# Altium schematic symbol library Buck.SCHLIB: 41 symbols
Pins are listed as number, name and electrical type; pins without a type are passive.

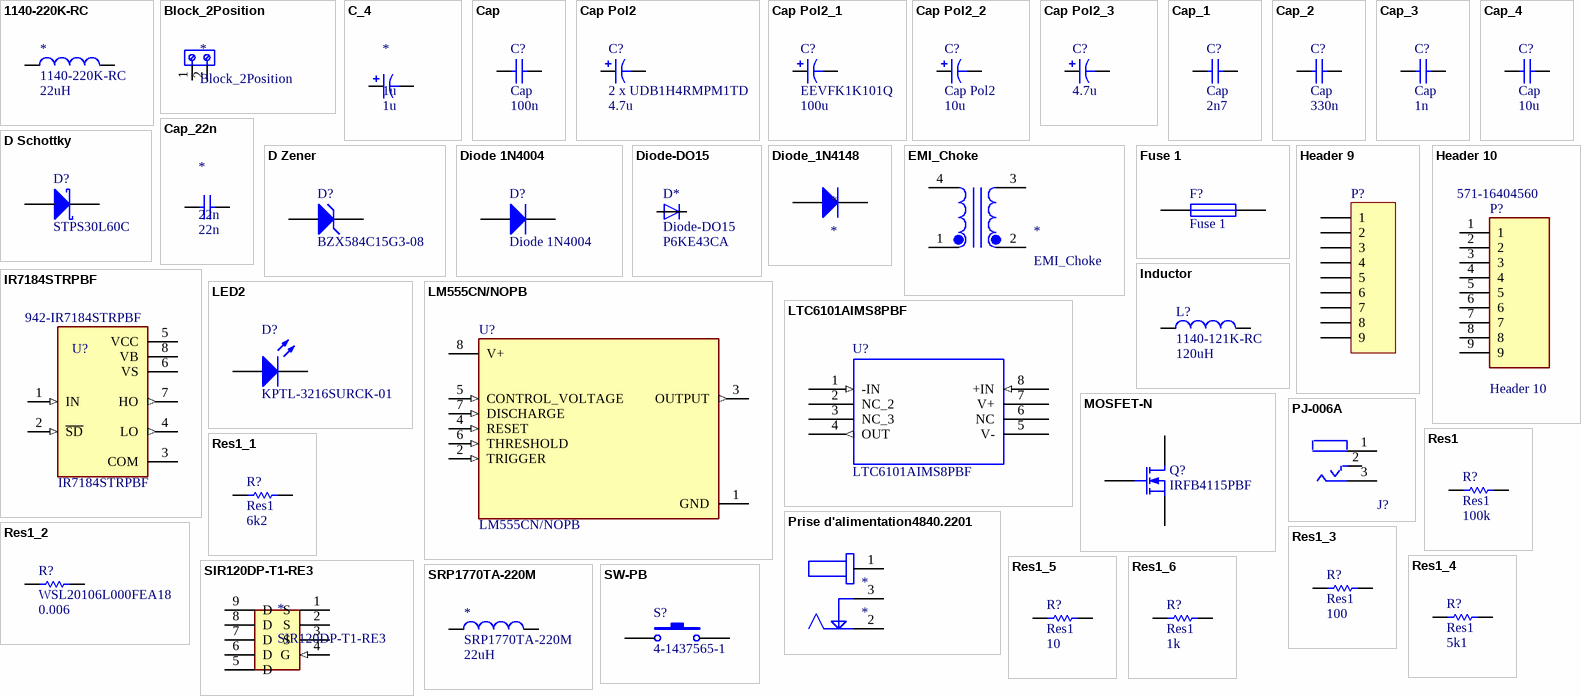
[diagram p0: symbols 1140-220K-RC to SW-PB]

## 1140-220K-RC
designator *  value 22uH
footprint L_120
pins: 1, 2

## Block_2Position
designator *
footprint Block_2Position
pins: 1, 2

## C_4
designator *, comment 1u
Parameter 2: *; Valeur: 1u
footprint C0805
pins: 1, 2

## Cap
designator C?  value 100n
Capacitor; Published: 8-Jun-2000; LatestRevisionDate: 17-Jul-2002; LatestRevisionNote: Re-released for DXP Platform.; PackageReference: RAD-0.3; Publisher: Altium Limited; PackageDescription: Radial Cap, Thru-Hole; 2 Leads; 0.3 in Pin Spacing; Supplier 1: Mouser
simulation model CAP (Capacitor)
signal-integrity model Cap
footprint C0805
pins: 1, 2

## Cap Pol2
designator C?, comment 2 x UDB1H4RMPM1TD  value 4.7u
Published: 8-Jun-2000; LatestRevisionDate: 17-Jul-2002; LatestRevisionNote: Re-released for DXP Platform.; PackageReference: POLAR0.8; Publisher: Altium Limited; PackageDescription: Polarized Capacitor; 2 Leads; Supplier 1: Digi-Key
simulation model CAP (Capacitor)
signal-integrity model Cap Pol
footprint C1-C2
pins: 1, 2
1 alternate drawing of the same symbol

## Cap Pol2_1
designator C?, comment EEVFK1K101Q  value 100u
Polarized Capacitor (Axial); Published: 8-Jun-2000; LatestRevisionDate: 17-Jul-2002; LatestRevisionNote: Re-released for DXP Platform.; PackageReference: POLAR0.8; Publisher: Altium Limited; PackageDescription: Polarized Capacitor; 2 Leads; Supplier 1: Mouser
simulation model CAP (Capacitor)
signal-integrity model Cap Pol
footprint C_Pol_EEV-FK1K101Q
pins: 1, 2
1 alternate drawing of the same symbol

## Cap Pol2_2
designator C?, comment Cap Pol2  value 10u
Polarized Capacitor (Axial); Published: 8-Jun-2000; LatestRevisionDate: 17-Jul-2002; LatestRevisionNote: Re-released for DXP Platform.; PackageReference: POLAR0.8; Publisher: Altium Limited; PackageDescription: Polarized Capacitor; 2 Leads; Supplier 1: Mouser
simulation model CAP (Capacitor)
signal-integrity model Cap Pol
footprint C_10u
pins: 1, 2
1 alternate drawing of the same symbol

## Cap Pol2_3
designator C?, comment value 4.7u  (hidden comment: UDB1H4RMPM1TD)
Published: 8-Jun-2000; LatestRevisionDate: 17-Jul-2002; LatestRevisionNote: Re-released for DXP Platform.; PackageReference: POLAR0.8; Publisher: Altium Limited; PackageDescription: Polarized Capacitor; 2 Leads; Supplier 1: Digi-Key
simulation model CAP (Capacitor)
signal-integrity model Cap Pol
footprint C1-C2
pins: NEG 2, POS 1
1 alternate drawing of the same symbol

## Cap_1
designator C?, comment Cap  value 2n7
Capacitor; Published: 8-Jun-2000; LatestRevisionDate: 17-Jul-2002; LatestRevisionNote: Re-released for DXP Platform.; PackageReference: RAD-0.3; Publisher: Altium Limited; PackageDescription: Radial Cap, Thru-Hole; 2 Leads; 0.3 in Pin Spacing; Supplier 1: Mouser
simulation model CAP (Capacitor)
signal-integrity model Cap
footprint C0805
pins: 1, 2

## Cap_2
designator C?, comment Cap  value 330n
Capacitor; Published: 8-Jun-2000; LatestRevisionDate: 17-Jul-2002; LatestRevisionNote: Re-released for DXP Platform.; PackageReference: RAD-0.3; Publisher: Altium Limited; PackageDescription: Radial Cap, Thru-Hole; 2 Leads; 0.3 in Pin Spacing; Supplier 1: Mouser
simulation model CAP (Capacitor)
signal-integrity model Cap
footprint C0805
pins: 1, 2

## Cap_3
designator C?, comment Cap  value 1n
Capacitor; Published: 8-Jun-2000; LatestRevisionDate: 17-Jul-2002; LatestRevisionNote: Re-released for DXP Platform.; PackageReference: RAD-0.3; Publisher: Altium Limited; PackageDescription: Radial Cap, Thru-Hole; 2 Leads; 0.3 in Pin Spacing; Supplier 1: Mouser
simulation model CAP (Capacitor)
signal-integrity model Cap
footprint C0805
pins: 1, 2

## Cap_4
designator C?, comment Cap  value 10u
Capacitor; Published: 8-Jun-2000; LatestRevisionDate: 17-Jul-2002; LatestRevisionNote: Re-released for DXP Platform.; PackageReference: RAD-0.3; Publisher: Altium Limited; PackageDescription: Radial Cap, Thru-Hole; 2 Leads; 0.3 in Pin Spacing; Supplier 1: Mouser
simulation model CAP (Capacitor)
signal-integrity model Cap
footprint C_Pol
pins: 1, 2

## Cap_22n
designator *, comment 22n
Parameter 2: *; Value: 22n
footprint C0805
pins: 1, 2

## D Schottky
designator D?, comment STPS30L60C
Schottky Diode; Published: 8-Jun-2000; LatestRevisionDate: 17-Jul-2002; LatestRevisionNote: Re-released for DXP Platform.; PackageReference: SMB; Publisher: Altium Limited; PackageDescription: DO-214-AA/SMB; 2 C-Bend Leads; Body 5.3 x 3.6 mm, inc. leads (LxW); Code_JEDEC: DO-214-AA
simulation model SKYDIODE (Diode)
signal-integrity model D Schottky
footprint Diode_Scho
pins: 1 A, 3, 4 K

## D Zener
designator D?, comment BZX584C15G3-08
Zener Diode 15V; Published: 8-Jun-2000; LatestRevisionDate: 17-Jul-2002; LatestRevisionNote: Re-released for DXP Platform.; PackageReference: DIODE-0.7; Publisher: Altium Limited; PackageDescription: Diode, Thru-Hole; 2 Leads; 0.7 in Pin Spacing; Supplier 1: Mouser
simulation model ZENER (Diode)
signal-integrity model D Zener
footprint SOT-523
pins: 1, 2

## Diode 1N4004
designator D?
1 Amp General Purpose Rectifier; Published: 8-Jun-2000; LatestRevisionDate: 17-Jul-2002; LatestRevisionNote: Re-released for DXP Platform.; DatasheetVersion: 1998; PackageVersion: Aug-1999; PackageReference: DO-41; Publisher: Altium Limited; PackageDescription: Diode, Axial; Body 5.2 x 2.7 mm (LxDia. max), Lead Dia. 0.86 mm (max); Code_JEDEC: DO-204-AL; ComponentLink1Description: Manufacturer Link; ComponentLink1URL: http://www.fairchildsemi.com/; ComponentLink2Description: Datasheet; ComponentLink2URL: http://www.fairchildsemi.com/ds/1N%2F1N4001.pdf; Supplier 1: Digi-Key
simulation model 1N4004 (DIODE)
signal-integrity model 1N4004
footprint diode_1N4004
pins: A, C K

## Diode-DO15
designator D*
P6KE43CA; Tension: 43V; Ref: P6KE43CA
footprint DO15
pins: A, C

## Diode_1N4148
designator *
footprint diode_1N4004
pins: A, C

## EMI_Choke
designator *
1mH 20A
footprint EMI_Choke
pins: 1, 2, 3, 4

## Fuse 1
designator F?
Fuse; Published: 8-Jun-2000; LatestRevisionDate: 17-Jul-2002; LatestRevisionNote: Re-released for DXP Platform.; PackageReference: PIN-W2/E2.8; Publisher: Altium Limited; PackageDescription: Thru-Hole; 2 Leads
footprint PIN-W2/E2.8 (Thru-Hole; 2 Leads)
simulation model FUSE (Spice Subcircuit)
pins: 1, 2

## Header 9
designator P?
Header, 9-Pin; LatestRevisionDate: 17-Jul-2002; LatestRevisionNote: Re-released for DXP Platform.; Publisher: Altium Limited
footprint HDR1X9 (Connector; Header; 9 Position)
signal-integrity model Connector
pins: 1, 2, 3, 4, 5, 6, 7, 8, 9

## Header 10
designator P?  Supplier Part Number 1: 571-16404560
Header, 10-Pin; LatestRevisionDate: 17-Jul-2002; LatestRevisionNote: Re-released for DXP Platform.; Publisher: Altium Limited; Supplier 1: Mouser
signal-integrity model Connector
footprint Header10
pins: 1, 2, 3, 4, 5, 6, 7, 8, 9

## Inductor
designator L?, comment 1140-121K-RC  value 120uH
Code_IEC: 1005; Published: 8-Jun-2000; LatestRevisionDate: 29-May-2009; LatestRevisionNote: IPC-7351 Footprint Added.; PackageReference: 0402-A; Publisher: Altium Limited; PackageDescription: Chip Inductor; Code_JEITA: 0402; Supplier 1: Mouser
simulation model INDUCTOR (Inductor)
signal-integrity model Inductor
footprint L_120
pins: 1, 2

## IR7184STRPBF
designator U?  Supplier Part Number 1: 942-IR7184STRPBF
Drives IGBT/MOSFET power devices | Gate drive supplies up to 20 V per channel | Integrated deadtime protection | Shoot-through _cross-conduction_ protection | Undervoltage lockout for VCC for VBS | 3.3 V, 5 V , 15 V input logic compatible | Tolerant to negative transient voltage | Designed for use with bootstrap power supplies | Matched propagation delays | -40C to 125C operating range; MF: Infineon Technologies; Value: *; MP: IR7184STRPBF; Package: SOIC-8 Infineon; Price: None; Availability: Unavailable; SnapEDA_Link: https://www.snapeda.com/parts/IR7184STRPBF/Infineon%20Technologies/view-part/1224754/?ref=snap; Supplier 1: Mouser
footprint IR7184STRPBF
pins: 1 IN (in), 2 ~{SD} (in), 3 COM (power), 4 LO (out), 5 VCC (power), 6 VS (power), 7 HO (out), 8 VB (power)

## LED2
designator D?, comment KPTL-3216SURCK-01
Typical RED, GREEN, YELLOW, AMBER GaAs LED; Published: 8-Jun-2000; LatestRevisionDate: 17-Jul-2002; LatestRevisionNote: Re-released for DXP Platform.; PackageVersion: Feb-2002; PackageReference: 3.2X1.6X1.1; Publisher: Altium Limited; PackageDescription: SM LED; 2 Flat Leads; Supplier 1: Farnell
simulation model LED2 (Diode)
footprint LED
pins: 1 A, 2 K

## LM555CN/NOPB
designator U?
Value: *; Availability: Unavailable; Package: None; MP: LM555CN/NOPB; Price: None; Supplier 1: Mouser
footprint LM555CN/NOPB
pins: 1 GND (power), 2 TRIGGER (in), 3 OUTPUT (out), 4 RESET (in), 5 CONTROL_VOLTAGE (in), 6 THRESHOLD (in), 7 DISCHARGE (in), 8 V+ (power)

## LTC6101AIMS8PBF
designator U?
SP Amp Current Sense Amp Single 60V Automotive 8-Pin MSOP Tube; MP: LTC6101AIMS8#PBF; MF: Analog Devices; SnapEDA_Link: https://www.snapeda.com/parts/LTC6101AIMS8%23PBF/Analog%20Devices/view-part/4331140/?ref=snap; Price: None; Purchase-URL: https://pricing.snapeda.com/search/part/LTC6101AIMS8#PBF/?ref=eda; Package: MSOP-8 Analog Devices; Availability: Warning; Value: *; Check_prices: https://www.snapeda.com/parts/LTC6101AIMS8%23PBF/Analog%20Devices/view-part/4331140/?ref=eda; Supplier 1: Mouser
footprint LTC6101AIMS8#PBF
pins: 1 -IN (in), 2 NC_2, 3 NC_3, 4 OUT (out), 5 V- (power), 6 NC, 7 V+ (power), 8 +IN (in)

## MOSFET-N
designator Q?, comment IRFB4115PBF
N-Channel MOSFET; Published: 8-Jun-2000; LatestRevisionDate: 17-Jul-2002; LatestRevisionNote: Re-released for DXP Platform.; PackageVersion: 1995/1996; PackageReference: E3; Publisher: Altium Limited; PackageDescription: TO, Flat Index; 3 In-Line, Axial Leads; Body Dia. 4.6mm; Lead Dia. 0.5 mm (max); Supplier 1: Mouser
simulation model NMOS (MOSFET-N)
footprint MOSFET-N_IRFB4115PBF
pins: 1 D, 2 G, 3 S

## PJ-006A
designator J?  (value not drawn)
2.1mm DC Power Jack
footprint CUI_Inc_PJ-006A_MFG
pins: 1, 2, 3

## Prise d'alimentation4840.2201
designator *
footprint Prise d'alimentation4840.2201
pins: 1, 2, 3

## Res1
designator R?  value 100k
Resistor; Published: 8-Jun-2000; LatestRevisionDate: 17-Jul-2002; LatestRevisionNote: Re-released for DXP Platform.; PackageReference: AXIAL-0.3; Publisher: Altium Limited; PackageDescription: Axial Device, Thru-Hole; 2 Leads; 0.3 in Pin Spacing; Supplier 1: Digi-Key; Supplier 2: Mouser
simulation model RESISTOR (Resistor)
signal-integrity model Res
footprint R0805
pins: 1, 2

## Res1_1
designator R?, comment Res1  value 6k2
Resistor; Published: 8-Jun-2000; LatestRevisionDate: 17-Jul-2002; LatestRevisionNote: Re-released for DXP Platform.; PackageReference: AXIAL-0.3; Publisher: Altium Limited; PackageDescription: Axial Device, Thru-Hole; 2 Leads; 0.3 in Pin Spacing; Supplier 1: Mouser
simulation model RESISTOR (Resistor)
signal-integrity model Res
footprint R0805
pins: 1, 2

## Res1_2
designator R?, comment WSL20106L000FEA18  value 0.006
Resistor; Published: 8-Jun-2000; LatestRevisionDate: 17-Jul-2002; LatestRevisionNote: Re-released for DXP Platform.; PackageReference: AXIAL-0.3; Publisher: Altium Limited; PackageDescription: Axial Device, Thru-Hole; 2 Leads; 0.3 in Pin Spacing; Supplier 1: Mouser
simulation model RESISTOR (Resistor)
signal-integrity model Res
footprint R0.006
pins: 1, 2

## Res1_3
designator R?, comment Res1  value 100
Resistor; Published: 8-Jun-2000; LatestRevisionDate: 17-Jul-2002; LatestRevisionNote: Re-released for DXP Platform.; PackageReference: AXIAL-0.3; Publisher: Altium Limited; PackageDescription: Axial Device, Thru-Hole; 2 Leads; 0.3 in Pin Spacing; Supplier 1: Mouser
simulation model RESISTOR (Resistor)
signal-integrity model Res
footprint R0805
pins: 1, 2

## Res1_4
designator R?, comment Res1  value 5k1
Resistor; Published: 8-Jun-2000; LatestRevisionDate: 17-Jul-2002; LatestRevisionNote: Re-released for DXP Platform.; PackageReference: AXIAL-0.3; Publisher: Altium Limited; PackageDescription: Axial Device, Thru-Hole; 2 Leads; 0.3 in Pin Spacing; Supplier 1: Mouser
simulation model RESISTOR (Resistor)
signal-integrity model Res
footprint R0805
pins: 1, 2

## Res1_5
designator R?, comment Res1  value 10
Resistor; Published: 8-Jun-2000; LatestRevisionDate: 17-Jul-2002; LatestRevisionNote: Re-released for DXP Platform.; PackageReference: AXIAL-0.3; Publisher: Altium Limited; PackageDescription: Axial Device, Thru-Hole; 2 Leads; 0.3 in Pin Spacing; Supplier 1: Mouser
simulation model RESISTOR (Resistor)
signal-integrity model Res
footprint R0805
pins: 1, 2

## Res1_6
designator R?, comment Res1  value 1k
Resistor; Published: 8-Jun-2000; LatestRevisionDate: 17-Jul-2002; LatestRevisionNote: Re-released for DXP Platform.; PackageReference: AXIAL-0.3; Publisher: Altium Limited; PackageDescription: Axial Device, Thru-Hole; 2 Leads; 0.3 in Pin Spacing; Supplier 1: Mouser
simulation model RESISTOR (Resistor)
signal-integrity model Res
footprint R0805
pins: 1, 2

## SIR120DP-T1-RE3
designator *
footprint MOFET_SIR120DP-T1-RE3
pins: 1 S (power), 2 S (power), 3 S (power), 4 G (in), 5 D (power), 6 D (power), 7 D (power), 8 D (power), 9 D (power)

## SRP1770TA-220M
designator *  value 22uH
footprint SRP1770TA-220M
pins: 1, 2

## SW-PB
designator S?, comment 4-1437565-1
Switch; Published: 24-Mar-1999; LatestRevisionDate: 17-Jul-2002; LatestRevisionNote: Re-released for DXP Platform.; PackageReference: SPST-2; Publisher: Altium Limited; PackageDescription: Switch; 2 Leads; Supplier 1: Mouser
footprint Switch
pins: 1, 2, 3, 4

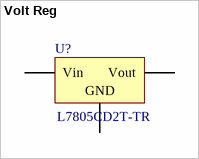
[diagram p1: symbol Volt Reg]

## Volt Reg
designator U?, comment L7805CD2T-TR
Voltage Regulator; Published: 24-Mar-1999; LatestRevisionDate: 29-May-2009; LatestRevisionNote: IPC-7351 Footprint Added.; PackageReference: D2PAK; Publisher: Altium Limited; PackageDescription: 3-Pin Transistor Outline Package 2.54 mm Pitch, 15.1 mm Lead Span; Supplier 1: Mouser
footprint Volt_Reg
pins: 1 Vin, 3 Vout, 4 GND